# EAGLE library part GLB-BLUETOOTH (library untitled)
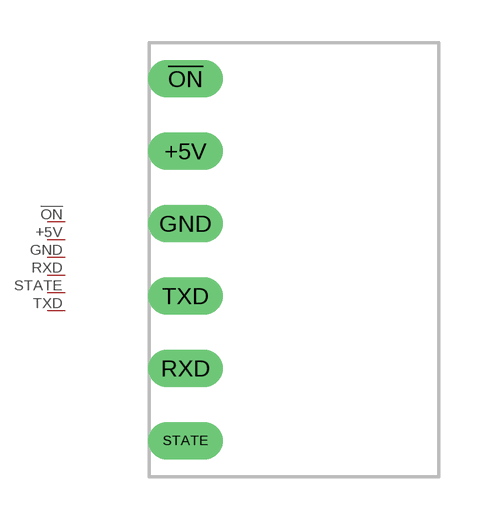
[diagram p0: symbol with the pads of BT; footprint BT]

Designator prefix -; gates G$1=CON G$2=CON G$3=CON G$4=CON G$5=CON G$6=CON

## GLB-BLUETOOTH  [BT]
!ON  G$1:P$1
+5V  G$2:P$1
GND  G$3:P$1
RXD  G$4:P$1
STATE  G$5:P$1
TXD  G$6:P$1

## Footprint BT (pad centres in mm)
drill 0.8 long: !ON 0,6.35; +5V 0,3.81; GND 0,1.27; RXD 0,-3.81; STATE 0,-6.35; TXD 0,-1.27